# Altium schematic symbol library IC.MCU.SchLib: 12 symbols
Pins are listed as number, name and electrical type; pins without a type are passive.

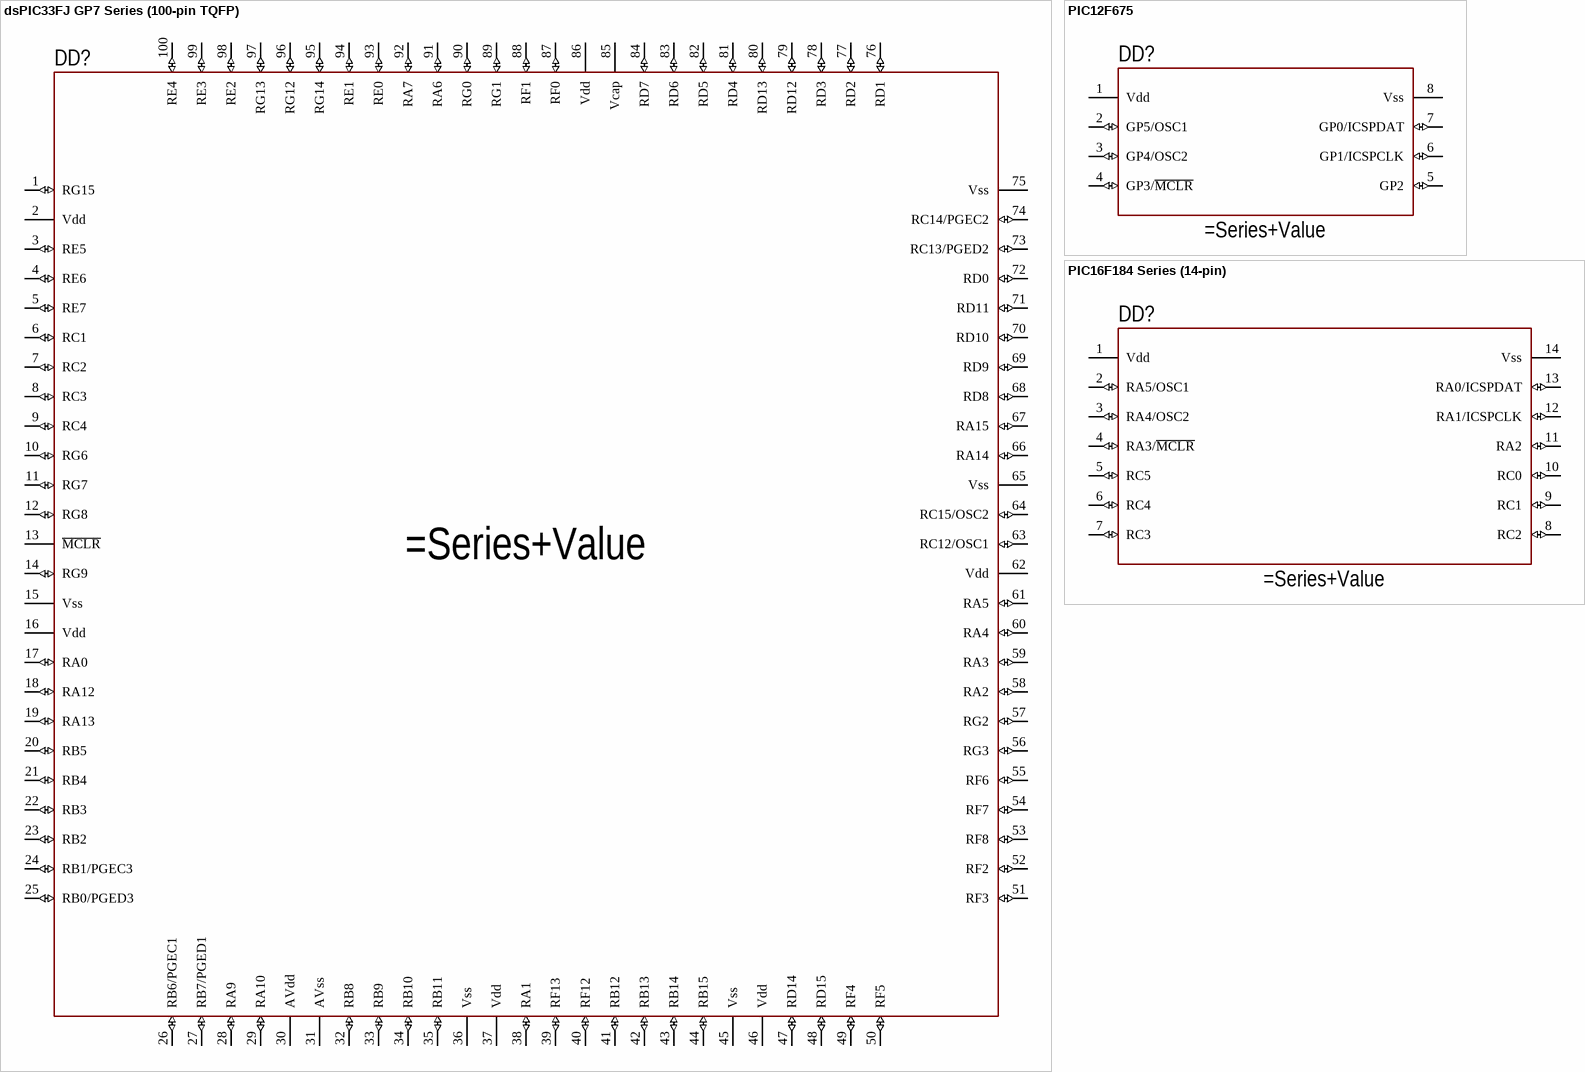
[diagram p0: symbols dsPIC33FJ GP7 Series (100-pin TQFP) to PIC16F184 Series (14-pin)]

## dsPIC33FJ GP7 Series (100-pin TQFP)
designator DD?
16-bit Digital Signal Controllers (up to 256 KB Flash and 30 KB SRAM) with Advanced Analog
pins: 1 RG15 (io), 2 Vdd, 3 RE5 (io), 4 RE6 (io), 5 RE7 (io), 6 RC1 (io), 7 RC2 (io), 8 RC3 (io), 9 RC4 (io), 10 RG6 (io), 11 RG7 (io), 12 RG8 (io), 13 ~{MCLR}, 14 RG9 (io), 15 Vss, 16 Vdd, 17 RA0 (io), 18 RA12 (io), 19 RA13 (io), 20 RB5 (io), 21 RB4 (io), 22 RB3 (io), 23 RB2 (io), 24 RB1/PGEC3 (io), 25 RB0/PGED3 (io), 26 RB6/PGEC1 (io), 27 RB7/PGED1 (io), 28 RA9 (io), 29 RA10 (io), 30 AVdd, 31 AVss, 32 RB8 (io), 33 RB9 (io), 34 RB10 (io), 35 RB11 (io), 36 Vss, 37 Vdd, 38 RA1 (io), 39 RF13 (io), 40 RF12 (io), 41 RB12 (io), 42 RB13 (io), 43 RB14 (io), 44 RB15 (io), 45 Vss, 46 Vdd, 47 RD14 (io), 48 RD15 (io), 49 RF4 (io), 50 RF5 (io), 51 RF3 (io), 52 RF2 (io), 53 RF8 (io), 54 RF7 (io), 55 RF6 (io), 56 RG3 (io), 57 RG2 (io), 58 RA2 (io), 59 RA3 (io), 60 RA4 (io), 61 RA5 (io), 62 Vdd, 63 RC12/OSC1 (io), 64 RC15/OSC2 (io), 65 Vss, 66 RA14 (io), 67 RA15 (io), 68 RD8 (io), 69 RD9 (io), 70 RD10 (io), 71 RD11 (io), 72 RD0 (io), 73 RC13/PGED2 (io), 74 RC14/PGEC2 (io), 75 Vss, 76 RD1 (io), 77 RD2 (io), 78 RD3 (io), 79 RD12 (io), 80 RD13 (io), 81 RD4 (io), 82 RD5 (io), 83 RD6 (io), 84 RD7 (io), 85 Vcap, 86 Vdd, 87 RF0 (io), 88 RF1 (io), 89 RG1 (io), 90 RG0 (io), 91 RA6 (io), 92 RA7 (io), 93 RE0 (io), 94 RE1 (io), 95 RG14 (io), 96 RG12 (io), 97 RG13 (io), 98 RE2 (io), 99 RE3 (io), 100 RE4 (io)

## PIC12F675
designator DD?
PIC12F675 Series MCU
pins: 1 Vdd (power), 2 GP5/OSC1 (io), 3 GP4/OSC2 (io), 4 GP3/~{MCLR} (io), 5 GP2 (io), 6 GP1/ICSPCLK (io), 7 GP0/ICSPDAT (io), 8 Vss (power)

## PIC16F184 Series (14-pin)
designator DD?
14-Pin Full-Featured, Low Pin Count Microcontrollers with XLP
pins: 1 Vdd, 2 RA5/OSC1 (io), 3 RA4/OSC2 (io), 4 RA3/~{MCLR} (io), 5 RC5 (io), 6 RC4 (io), 7 RC3 (io), 8 RC2 (io), 9 RC1 (io), 10 RC0 (io), 11 RA2 (io), 12 RA1/ICSPCLK (io), 13 RA0/ICSPDAT (io), 14 Vss

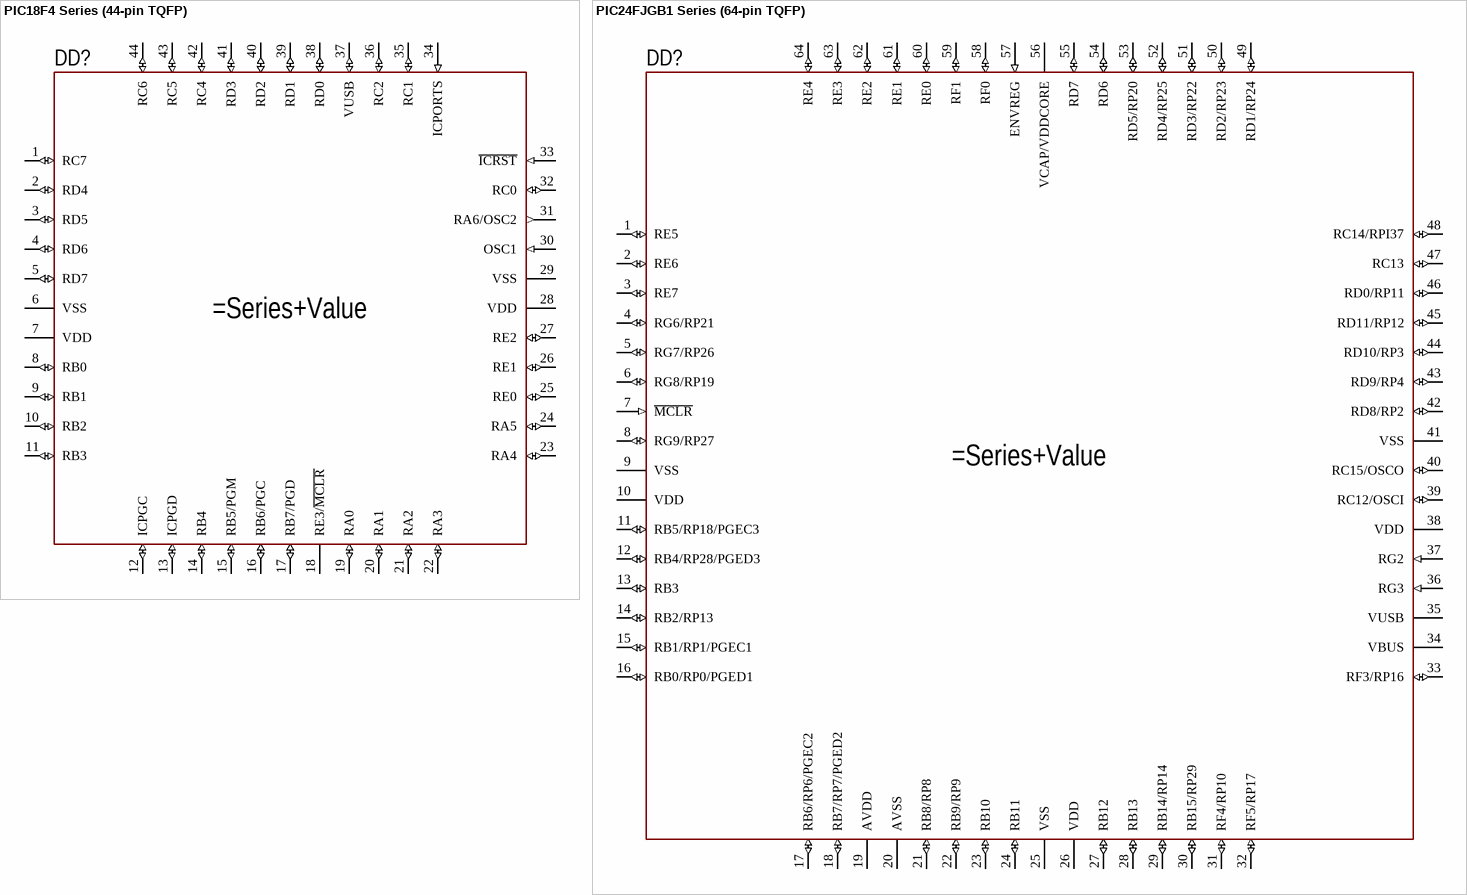
[diagram p1: symbols PIC18F4 Series (44-pin TQFP) to PIC24FJGB1 Series (64-pin TQFP)]

## PIC18F4 Series (44-pin TQFP)
designator DD?
High-Performance, Enhanced Flash, USB Microcontrollers with nanoWatt Technology
pins: 1 RC7 (io), 2 RD4 (io), 3 RD5 (io), 4 RD6 (io), 5 RD7 (io), 6 VSS, 7 VDD, 8 RB0 (io), 9 RB1 (io), 10 RB2 (io), 11 RB3 (io), 12 ICPGC (io), 13 ICPGD (io), 14 RB4 (io), 15 RB5/PGM (io), 16 RB6/PGC (io), 17 RB7/PGD (io), 18 RE3/~{MCLR}, 19 RA0 (io), 20 RA1 (io), 21 RA2 (io), 22 RA3 (io), 23 RA4 (io), 24 RA5 (io), 25 RE0 (io), 26 RE1 (io), 27 RE2 (io), 28 VDD, 29 VSS, 30 OSC1 (in), 31 RA6/OSC2 (out), 32 RC0 (io), 33 ~{ICRST} (in), 34 ICPORTS (in), 35 RC1 (io), 36 RC2 (io), 37 VUSB (io), 38 RD0 (io), 39 RD1 (io), 40 RD2 (io), 41 RD3 (io), 42 RC4 (io), 43 RC5 (io), 44 RC6 (io)

## PIC24FJGB1 Series (64-pin TQFP)
designator DD?
64-Pin, 16-Bit Flash Microcontrollers with USB On-The-Go (OTG)
pins: 1 RE5 (io), 2 RE6 (io), 3 RE7 (io), 4 RG6/RP21 (io), 5 RG7/RP26 (io), 6 RG8/RP19 (io), 7 ~{MCLR} (in), 8 RG9/RP27 (io), 9 VSS, 10 VDD, 11 RB5/RP18/PGEC3 (io), 12 RB4/RP28/PGED3 (io), 13 RB3 (io), 14 RB2/RP13 (io), 15 RB1/RP1/PGEC1 (io), 16 RB0/RP0/PGED1 (io), 17 RB6/RP6/PGEC2 (io), 18 RB7/RP7/PGED2 (io), 19 AVDD, 20 AVSS, 21 RB8/RP8 (io), 22 RB9/RP9 (io), 23 RB10 (io), 24 RB11 (io), 25 VSS, 26 VDD, 27 RB12 (io), 28 RB13 (io), 29 RB14/RP14 (io), 30 RB15/RP29 (io), 31 RF4/RP10 (io), 32 RF5/RP17 (io), 33 RF3/RP16 (io), 34 VBUS, 35 VUSB, 36 RG3 (in), 37 RG2 (in), 38 VDD, 39 RC12/OSCI (io), 40 RC15/OSCO (io), 41 VSS, 42 RD8/RP2 (io), 43 RD9/RP4 (io), 44 RD10/RP3 (io), 45 RD11/RP12 (io), 46 RD0/RP11 (io), 47 RC13 (io), 48 RC14/RPI37 (io), 49 RD1/RP24 (io), 50 RD2/RP23 (io), 51 RD3/RP22 (io), 52 RD4/RP25 (io), 53 RD5/RP20 (io), 54 RD6 (io), 55 RD7 (io), 56 VCAP/VDDCORE, 57 ENVREG (in), 58 RF0 (io), 59 RF1 (io), 60 RE0 (io), 61 RE1 (io), 62 RE2 (io), 63 RE3 (io), 64 RE4 (io)

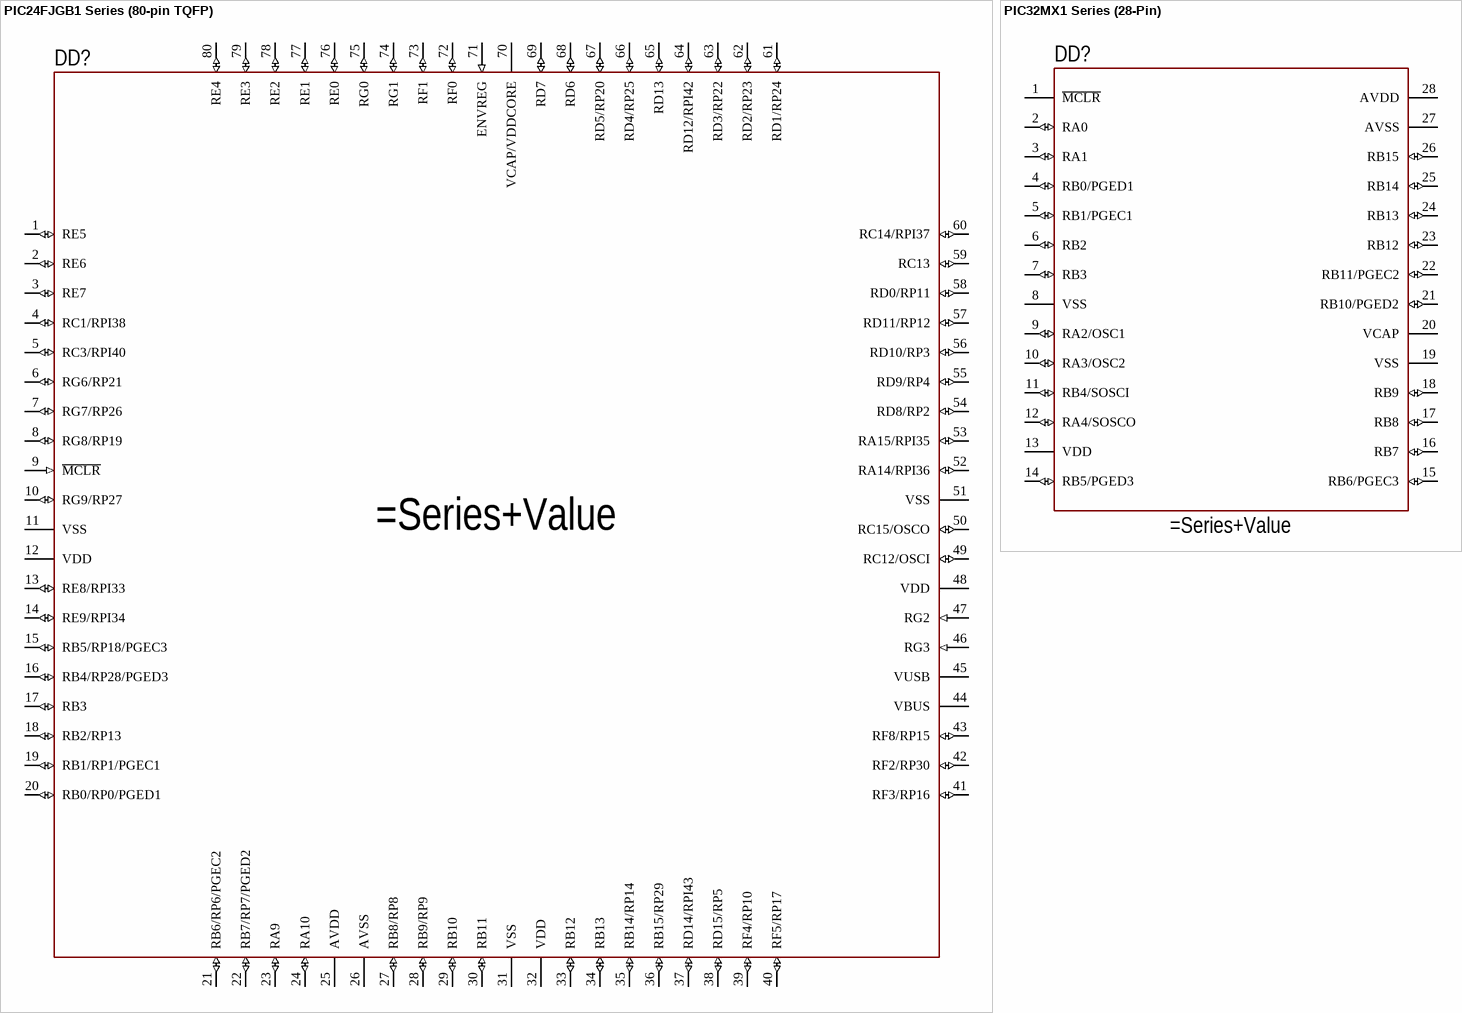
[diagram p2: symbols PIC24FJGB1 Series (80-pin TQFP) to PIC32MX1 Series (28-Pin)]

## PIC24FJGB1 Series (80-pin TQFP)
designator DD?
80-Pin, 16-Bit Flash Microcontrollers with USB On-The-Go (OTG); Group: GB1; Memory: 256; Package: PT; Temperature: I; Pins: 08; Series: PIC24FJ
pins: 1 RE5 (io), 2 RE6 (io), 3 RE7 (io), 4 RC1/RPI38 (io), 5 RC3/RPI40 (io), 6 RG6/RP21 (io), 7 RG7/RP26 (io), 8 RG8/RP19 (io), 9 ~{MCLR} (in), 10 RG9/RP27 (io), 11 VSS, 12 VDD, 13 RE8/RPI33 (io), 14 RE9/RPI34 (io), 15 RB5/RP18/PGEC3 (io), 16 RB4/RP28/PGED3 (io), 17 RB3 (io), 18 RB2/RP13 (io), 19 RB1/RP1/PGEC1 (io), 20 RB0/RP0/PGED1 (io), 21 RB6/RP6/PGEC2 (io), 22 RB7/RP7/PGED2 (io), 23 RA9 (io), 24 RA10 (io), 25 AVDD, 26 AVSS, 27 RB8/RP8 (io), 28 RB9/RP9 (io), 29 RB10 (io), 30 RB11 (io), 31 VSS, 32 VDD, 33 RB12 (io), 34 RB13 (io), 35 RB14/RP14 (io), 36 RB15/RP29 (io), 37 RD14/RPI43 (io), 38 RD15/RP5 (io), 39 RF4/RP10 (io), 40 RF5/RP17 (io), 41 RF3/RP16 (io), 42 RF2/RP30 (io), 43 RF8/RP15 (io), 44 VBUS, 45 VUSB, 46 RG3 (in), 47 RG2 (in), 48 VDD, 49 RC12/OSCI (io), 50 RC15/OSCO (io), 51 VSS, 52 RA14/RPI36 (io), 53 RA15/RPI35 (io), 54 RD8/RP2 (io), 55 RD9/RP4 (io), 56 RD10/RP3 (io), 57 RD11/RP12 (io), 58 RD0/RP11 (io), 59 RC13 (io), 60 RC14/RPI37 (io), 61 RD1/RP24 (io), 62 RD2/RP23 (io), 63 RD3/RP22 (io), 64 RD12/RPI42 (io), 65 RD13 (io), 66 RD4/RP25 (io), 67 RD5/RP20 (io), 68 RD6 (io), 69 RD7 (io), 70 VCAP/VDDCORE, 71 ENVREG (in), 72 RF0 (io), 73 RF1 (io), 74 RG1 (io), 75 RG0 (io), 76 RE0 (io), 77 RE1 (io), 78 RE2 (io), 79 RE3 (io), 80 RE4 (io)

## PIC32MX1 Series (28-Pin)
designator DD?
32-bit Microcontrollers (up to 256 KB Flash and 64 KB SRAM) with Audio and Graphics Interfaces, USB, and Advanced Analog
pins: 1 ~{MCLR}, 2 RA0 (io), 3 RA1 (io), 4 RB0/PGED1 (io), 5 RB1/PGEC1 (io), 6 RB2 (io), 7 RB3 (io), 8 VSS, 9 RA2/OSC1 (io), 10 RA3/OSC2 (io), 11 RB4/SOSCI (io), 12 RA4/SOSCO (io), 13 VDD, 14 RB5/PGED3 (io), 15 RB6/PGEC3 (io), 16 RB7 (io), 17 RB8 (io), 18 RB9 (io), 19 VSS, 20 VCAP, 21 RB10/PGED2 (io), 22 RB11/PGEC2 (io), 23 RB12 (io), 24 RB13 (io), 25 RB14 (io), 26 RB15 (io), 27 AVSS, 28 AVDD

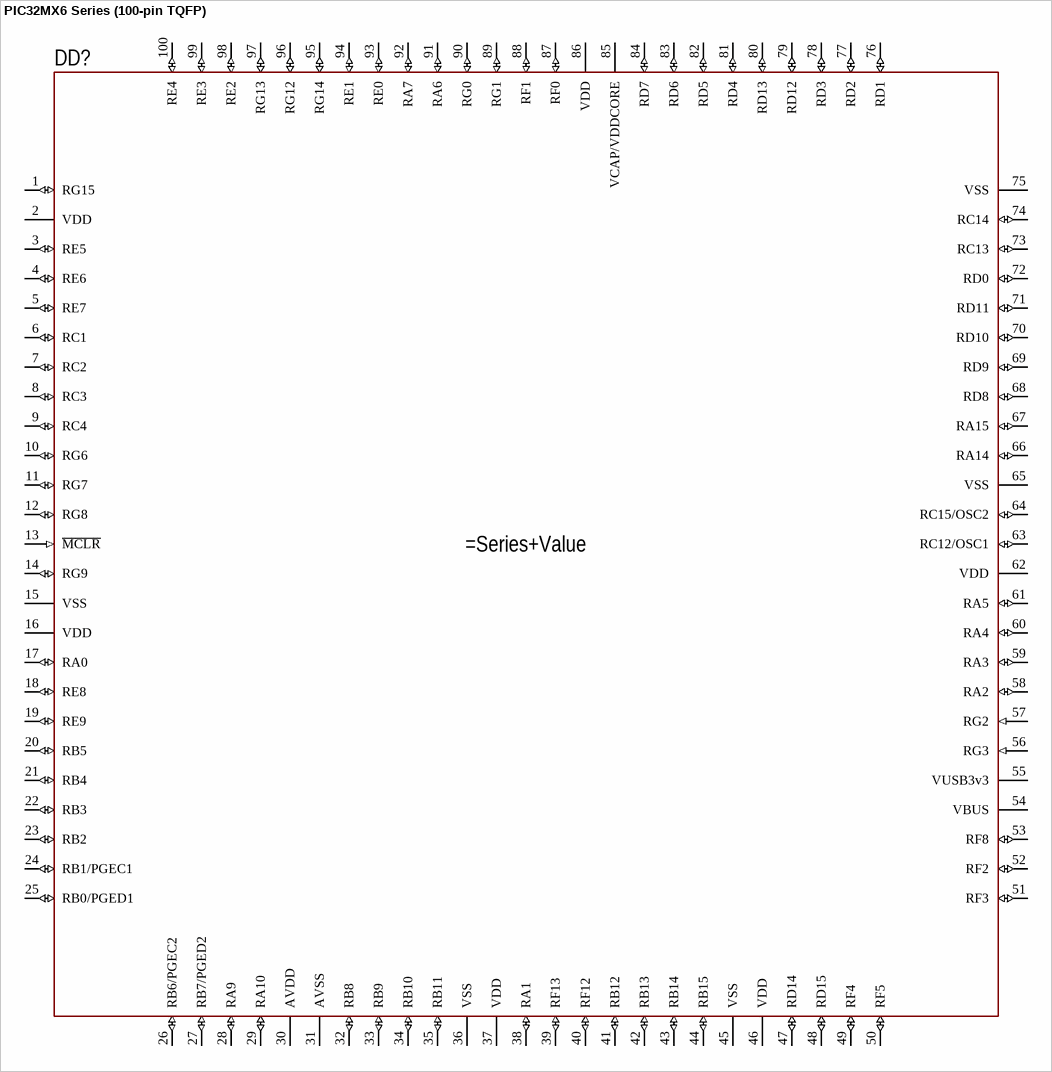
[diagram p3: symbol PIC32MX6 Series (100-pin TQFP)]

## PIC32MX6 Series (100-pin TQFP)
designator DD?
32-bit Microcontrollers (up to 512 KB Flash and 128 KB SRAM) with Graphics Interface, USB, CAN, and Ethernet
pins: 1 RG15 (io), 2 VDD, 3 RE5 (io), 4 RE6 (io), 5 RE7 (io), 6 RC1 (io), 7 RC2 (io), 8 RC3 (io), 9 RC4 (io), 10 RG6 (io), 11 RG7 (io), 12 RG8 (io), 13 ~{MCLR} (in), 14 RG9 (io), 15 VSS, 16 VDD, 17 RA0 (io), 18 RE8 (io), 19 RE9 (io), 20 RB5 (io), 21 RB4 (io), 22 RB3 (io), 23 RB2 (io), 24 RB1/PGEC1 (io), 25 RB0/PGED1 (io), 26 RB6/PGEC2 (io), 27 RB7/PGED2 (io), 28 RA9 (io), 29 RA10 (io), 30 AVDD, 31 AVSS, 32 RB8 (io), 33 RB9 (io), 34 RB10 (io), 35 RB11 (io), 36 VSS, 37 VDD, 38 RA1 (io), 39 RF13 (io), 40 RF12 (io), 41 RB12 (io), 42 RB13 (io), 43 RB14 (io), 44 RB15 (io), 45 VSS, 46 VDD, 47 RD14 (io), 48 RD15 (io), 49 RF4 (io), 50 RF5 (io), 51 RF3 (io), 52 RF2 (io), 53 RF8 (io), 54 VBUS, 55 VUSB3v3, 56 RG3 (in), 57 RG2 (in), 58 RA2 (io), 59 RA3 (io), 60 RA4 (io), 61 RA5 (io), 62 VDD, 63 RC12/OSC1 (io), 64 RC15/OSC2 (io), 65 VSS, 66 RA14 (io), 67 RA15 (io), 68 RD8 (io), 69 RD9 (io), 70 RD10 (io), 71 RD11 (io), 72 RD0 (io), 73 RC13 (io), 74 RC14 (io), 75 VSS, 76 RD1 (io), 77 RD2 (io), 78 RD3 (io), 79 RD12 (io), 80 RD13 (io), 81 RD4 (io), 82 RD5 (io), 83 RD6 (io), 84 RD7 (io), 85 VCAP/VDDCORE, 86 VDD, 87 RF0 (io), 88 RF1 (io), 89 RG1 (io), 90 RG0 (io), 91 RA6 (io), 92 RA7 (io), 93 RE0 (io), 94 RE1 (io), 95 RG14 (io), 96 RG12 (io), 97 RG13 (io), 98 RE2 (io), 99 RE3 (io), 100 RE4 (io)

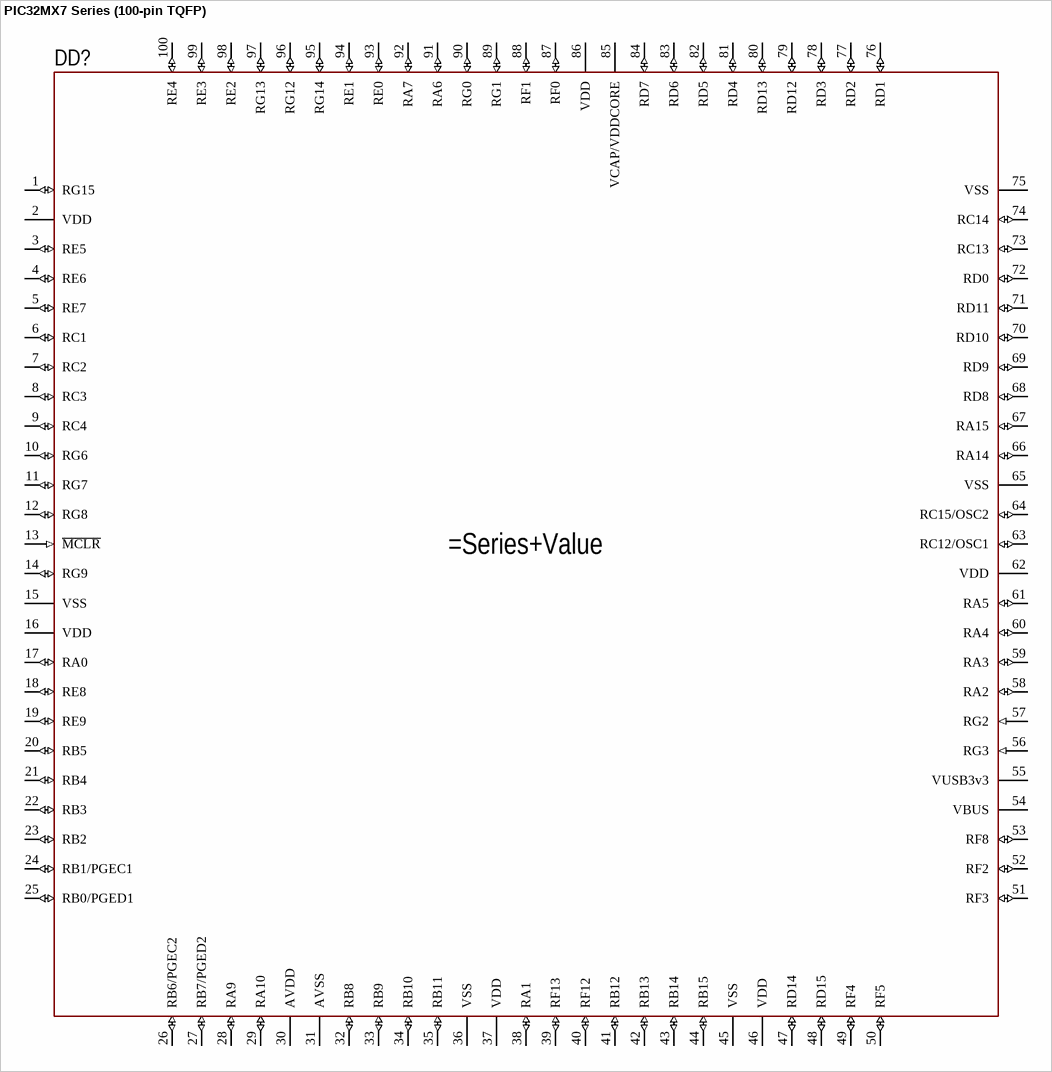
[diagram p4: symbol PIC32MX7 Series (100-pin TQFP)]

## PIC32MX7 Series (100-pin TQFP)
designator DD?
32-bit Microcontrollers (up to 512 KB Flash and 128 KB SRAM) with Graphics Interface, USB, CAN, and Ethernet
pins: 1 RG15 (io), 2 VDD, 3 RE5 (io), 4 RE6 (io), 5 RE7 (io), 6 RC1 (io), 7 RC2 (io), 8 RC3 (io), 9 RC4 (io), 10 RG6 (io), 11 RG7 (io), 12 RG8 (io), 13 ~{MCLR} (in), 14 RG9 (io), 15 VSS, 16 VDD, 17 RA0 (io), 18 RE8 (io), 19 RE9 (io), 20 RB5 (io), 21 RB4 (io), 22 RB3 (io), 23 RB2 (io), 24 RB1/PGEC1 (io), 25 RB0/PGED1 (io), 26 RB6/PGEC2 (io), 27 RB7/PGED2 (io), 28 RA9 (io), 29 RA10 (io), 30 AVDD, 31 AVSS, 32 RB8 (io), 33 RB9 (io), 34 RB10 (io), 35 RB11 (io), 36 VSS, 37 VDD, 38 RA1 (io), 39 RF13 (io), 40 RF12 (io), 41 RB12 (io), 42 RB13 (io), 43 RB14 (io), 44 RB15 (io), 45 VSS, 46 VDD, 47 RD14 (io), 48 RD15 (io), 49 RF4 (io), 50 RF5 (io), 51 RF3 (io), 52 RF2 (io), 53 RF8 (io), 54 VBUS, 55 VUSB3v3, 56 RG3 (in), 57 RG2 (in), 58 RA2 (io), 59 RA3 (io), 60 RA4 (io), 61 RA5 (io), 62 VDD, 63 RC12/OSC1 (io), 64 RC15/OSC2 (io), 65 VSS, 66 RA14 (io), 67 RA15 (io), 68 RD8 (io), 69 RD9 (io), 70 RD10 (io), 71 RD11 (io), 72 RD0 (io), 73 RC13 (io), 74 RC14 (io), 75 VSS, 76 RD1 (io), 77 RD2 (io), 78 RD3 (io), 79 RD12 (io), 80 RD13 (io), 81 RD4 (io), 82 RD5 (io), 83 RD6 (io), 84 RD7 (io), 85 VCAP/VDDCORE, 86 VDD, 87 RF0 (io), 88 RF1 (io), 89 RG1 (io), 90 RG0 (io), 91 RA6 (io), 92 RA7 (io), 93 RE0 (io), 94 RE1 (io), 95 RG14 (io), 96 RG12 (io), 97 RG13 (io), 98 RE2 (io), 99 RE3 (io), 100 RE4 (io)

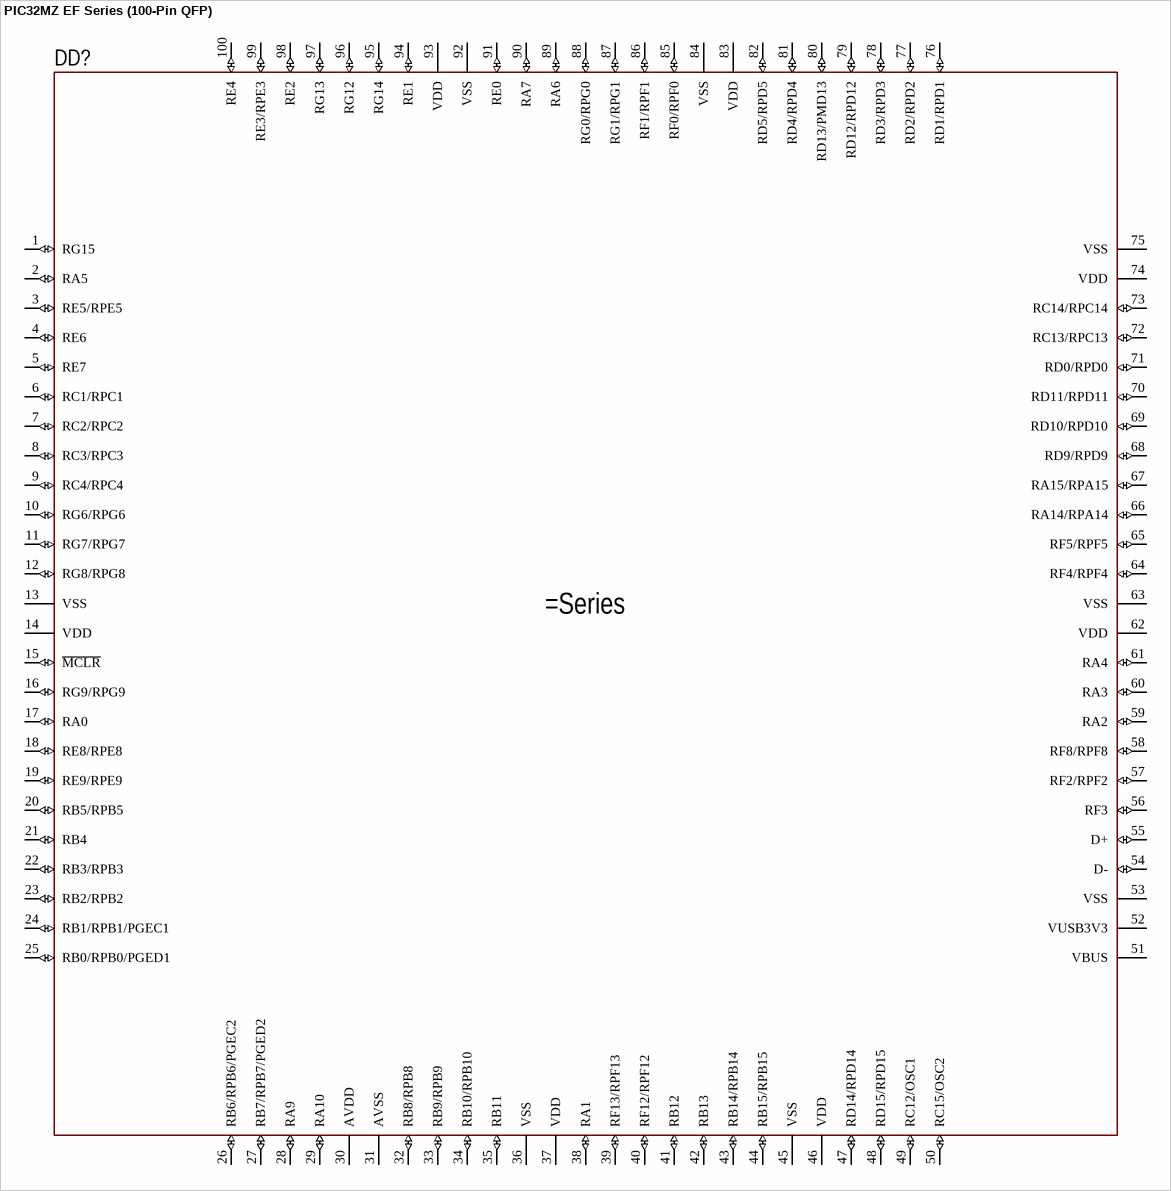
[diagram p5: symbol PIC32MZ EF Series (100-Pin QFP)]

## PIC32MZ EF Series (100-Pin QFP)
designator DD?
32-bit MCUs (up to 2 MB Live-Update Flash and 512 KB SRAM) with FPU, Audio and Graphics Interfaces, HS USB, Ethernet, and Advanced Analog
pins: 1 RG15 (io), 2 RA5 (io), 3 RE5/RPE5 (io), 4 RE6 (io), 5 RE7 (io), 6 RC1/RPC1 (io), 7 RC2/RPC2 (io), 8 RC3/RPC3 (io), 9 RC4/RPC4 (io), 10 RG6/RPG6 (io), 11 RG7/RPG7 (io), 12 RG8/RPG8 (io), 13 VSS, 14 VDD, 15 ~{MCLR} (io), 16 RG9/RPG9 (io), 17 RA0 (io), 18 RE8/RPE8 (io), 19 RE9/RPE9 (io), 20 RB5/RPB5 (io), 21 RB4 (io), 22 RB3/RPB3 (io), 23 RB2/RPB2 (io), 24 RB1/RPB1/PGEC1 (io), 25 RB0/RPB0/PGED1 (io), 26 RB6/RPB6/PGEC2 (io), 27 RB7/RPB7/PGED2 (io), 28 RA9 (io), 29 RA10 (io), 30 AVDD, 31 AVSS, 32 RB8/RPB8 (io), 33 RB9/RPB9 (io), 34 RB10/RPB10 (io), 35 RB11 (io), 36 VSS, 37 VDD, 38 RA1 (io), 39 RF13/RPF13 (io), 40 RF12/RPF12 (io), 41 RB12 (io), 42 RB13 (io), 43 RB14/RPB14 (io), 44 RB15/RPB15 (io), 45 VSS, 46 VDD, 47 RD14/RPD14 (io), 48 RD15/RPD15 (io), 49 RC12/OSC1 (io), 50 RC15/OSC2 (io), 51 VBUS, 52 VUSB3V3, 53 VSS, 54 D- (io), 55 D+ (io), 56 RF3 (io), 57 RF2/RPF2 (io), 58 RF8/RPF8 (io), 59 RA2 (io), 60 RA3 (io), 61 RA4 (io), 62 VDD, 63 VSS, 64 RF4/RPF4 (io), 65 RF5/RPF5 (io), 66 RA14/RPA14 (io), 67 RA15/RPA15 (io), 68 RD9/RPD9 (io), 69 RD10/RPD10 (io), 70 RD11/RPD11 (io), 71 RD0/RPD0 (io), 72 RC13/RPC13 (io), 73 RC14/RPC14 (io), 74 VDD, 75 VSS, 76 RD1/RPD1 (io), 77 RD2/RPD2 (io), 78 RD3/RPD3 (io), 79 RD12/RPD12 (io), 80 RD13/PMD13 (io), 81 RD4/RPD4 (io), 82 RD5/RPD5 (io), 83 VDD, 84 VSS, 85 RF0/RPF0 (io), 86 RF1/RPF1 (io), 87 RG1/RPG1 (io), 88 RG0/RPG0 (io), 89 RA6 (io), 90 RA7 (io), 91 RE0 (io), 92 VSS, 93 VDD, 94 RE1 (io), 95 RG14 (io), 96 RG12 (io), 97 RG13 (io), 98 RE2 (io), 99 RE3/RPE3 (io), 100 RE4 (io)

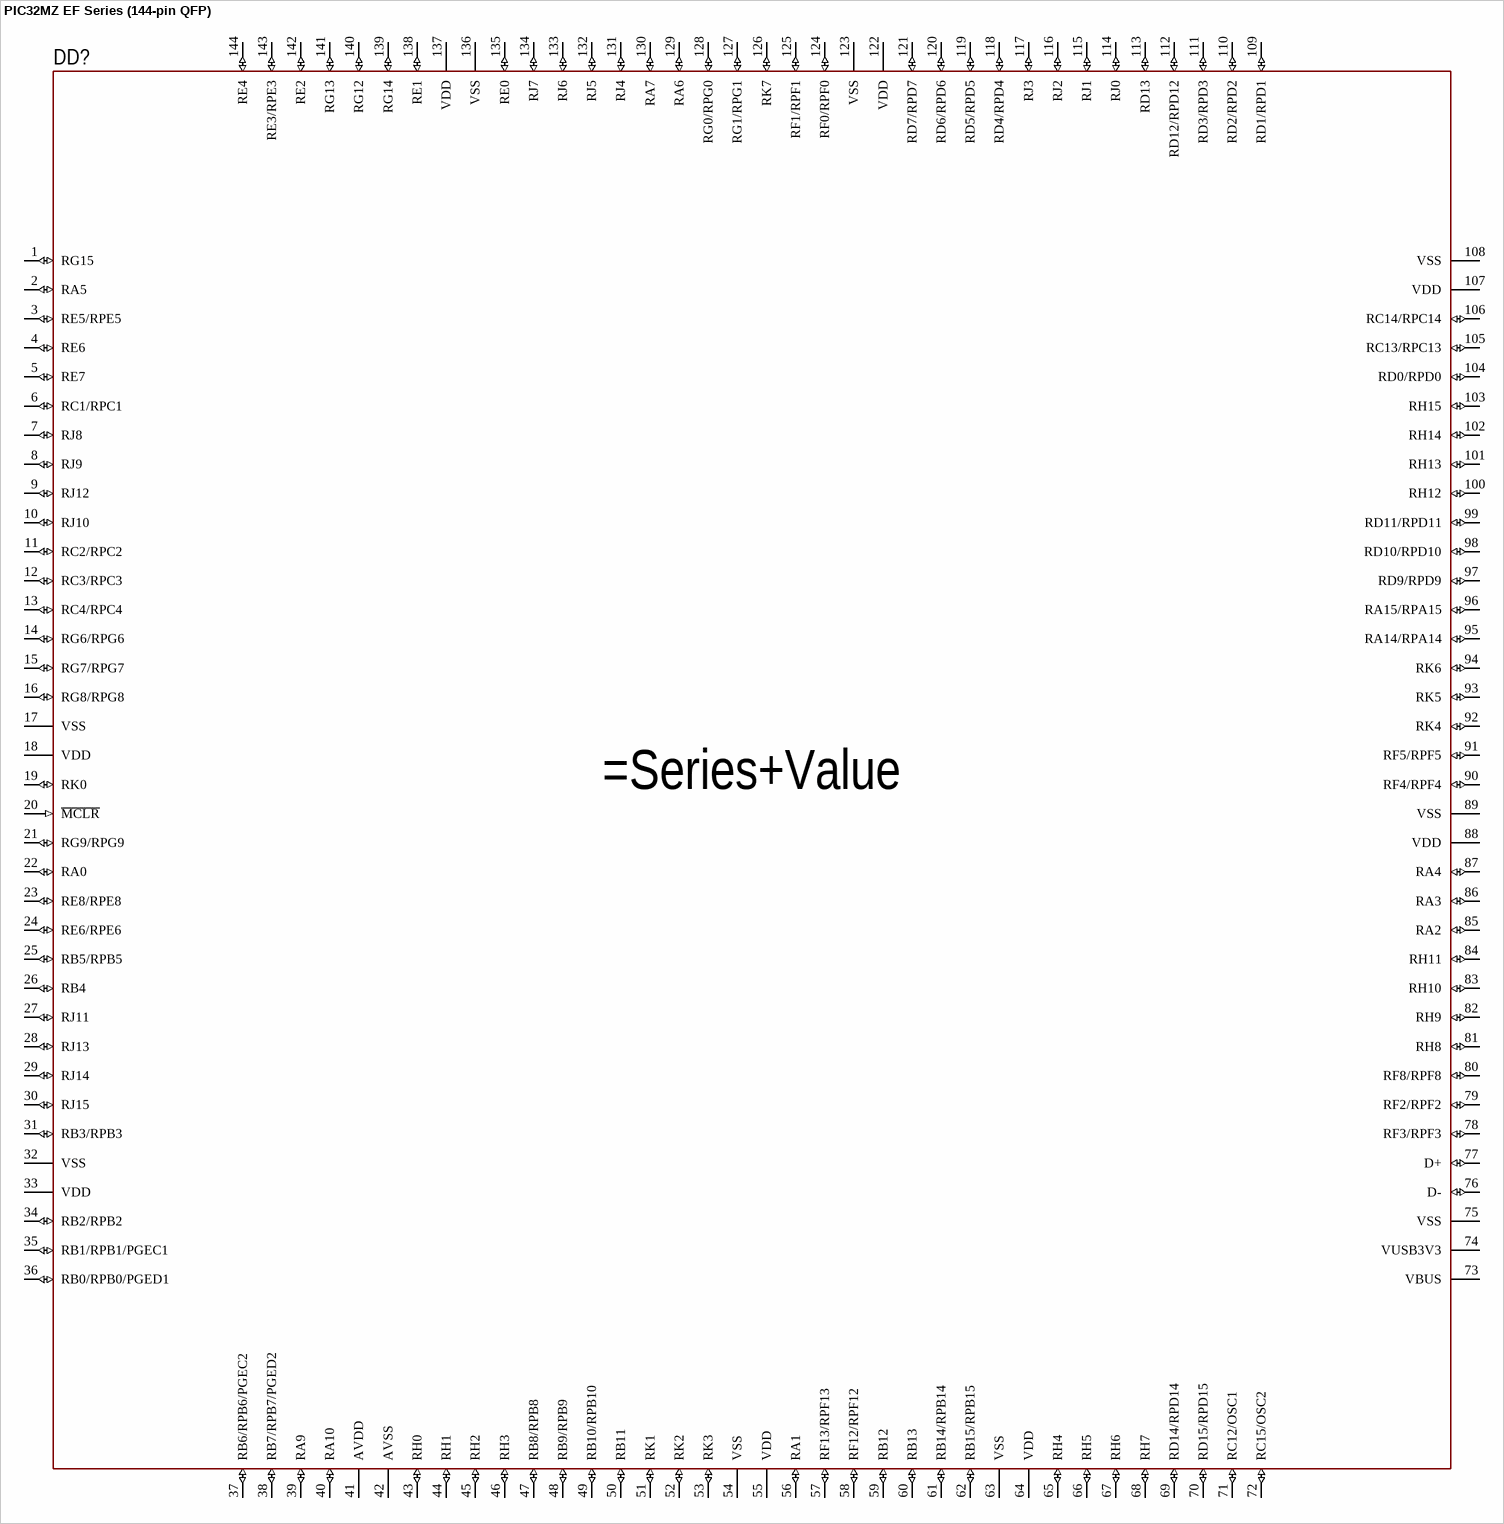
[diagram p6: symbol PIC32MZ EF Series (144-pin QFP)]

## PIC32MZ EF Series (144-pin QFP)
designator DD?
32-bit MCUs (up to 2 MB Live-Update Flash and 512 KB SRAM) with FPU, Audio and Graphics Interfaces, HS USB, Ethernet, and Advanced Analog
pins: 1 RG15 (io), 2 RA5 (io), 3 RE5/RPE5 (io), 4 RE6 (io), 5 RE7 (io), 6 RC1/RPC1 (io), 7 RJ8 (io), 8 RJ9 (io), 9 RJ12 (io), 10 RJ10 (io), 11 RC2/RPC2 (io), 12 RC3/RPC3 (io), 13 RC4/RPC4 (io), 14 RG6/RPG6 (io), 15 RG7/RPG7 (io), 16 RG8/RPG8 (io), 17 VSS, 18 VDD, 19 RK0 (io), 20 ~{MCLR} (in), 21 RG9/RPG9 (io), 22 RA0 (io), 23 RE8/RPE8 (io), 24 RE6/RPE6 (io), 25 RB5/RPB5 (io), 26 RB4 (io), 27 RJ11 (io), 28 RJ13 (io), 29 RJ14 (io), 30 RJ15 (io), 31 RB3/RPB3 (io), 32 VSS, 33 VDD, 34 RB2/RPB2 (io), 35 RB1/RPB1/PGEC1 (io), 36 RB0/RPB0/PGED1 (io), 37 RB6/RPB6/PGEC2 (io), 38 RB7/RPB7/PGED2 (io), 39 RA9 (io), 40 RA10 (io), 41 AVDD, 42 AVSS, 43 RH0 (io), 44 RH1 (io), 45 RH2 (io), 46 RH3 (io), 47 RB8/RPB8 (io), 48 RB9/RPB9 (io), 49 RB10/RPB10 (io), 50 RB11 (io), 51 RK1 (io), 52 RK2 (io), 53 RK3 (io), 54 VSS, 55 VDD, 56 RA1 (io), 57 RF13/RPF13 (io), 58 RF12/RPF12 (io), 59 RB12 (io), 60 RB13 (io), 61 RB14/RPB14 (io), 62 RB15/RPB15 (io), 63 VSS, 64 VDD, 65 RH4 (io), 66 RH5 (io), 67 RH6 (io), 68 RH7 (io), 69 RD14/RPD14 (io), 70 RD15/RPD15 (io), 71 RC12/OSC1 (io), 72 RC15/OSC2 (io), 73 VBUS, 74 VUSB3V3, 75 VSS, 76 D- (io), 77 D+ (io), 78 RF3/RPF3 (io), 79 RF2/RPF2 (io), 80 RF8/RPF8 (io), 81 RH8 (io), 82 RH9 (io), 83 RH10 (io), 84 RH11 (io), 85 RA2 (io), 86 RA3 (io), 87 RA4 (io), 88 VDD, 89 VSS, 90 RF4/RPF4 (io), 91 RF5/RPF5 (io), 92 RK4 (io), 93 RK5 (io), 94 RK6 (io), 95 RA14/RPA14 (io), 96 RA15/RPA15 (io), 97 RD9/RPD9 (io), 98 RD10/RPD10 (io), 99 RD11/RPD11 (io), 100 RH12 (io), 101 RH13 (io), 102 RH14 (io), 103 RH15 (io), 104 RD0/RPD0 (io), 105 RC13/RPC13 (io), 106 RC14/RPC14 (io), 107 VDD, 108 VSS, 109 RD1/RPD1 (io), 110 RD2/RPD2 (io), 111 RD3/RPD3 (io), 112 RD12/RPD12 (io), 113 RD13 (io), 114 RJ0 (io), 115 RJ1 (io), 116 RJ2 (io), 117 RJ3 (io), 118 RD4/RPD4 (io), 119 RD5/RPD5 (io), 120 RD6/RPD6 (io), 121 RD7/RPD7 (io), 122 VDD, 123 VSS, 124 RF0/RPF0 (io), 125 RF1/RPF1 (io), 126 RK7 (io), 127 RG1/RPG1 (io), 128 RG0/RPG0 (io), 129 RA6 (io), 130 RA7 (io), 131 RJ4 (io), 132 RJ5 (io), 133 RJ6 (io), 134 RJ7 (io), 135 RE0 (io), 136 VSS, 137 VDD, 138 RE1 (io), 139 RG14 (io), 140 RG12 (io), 141 RG13 (io), 142 RE2 (io), 143 RE3/RPE3 (io), 144 RE4 (io)

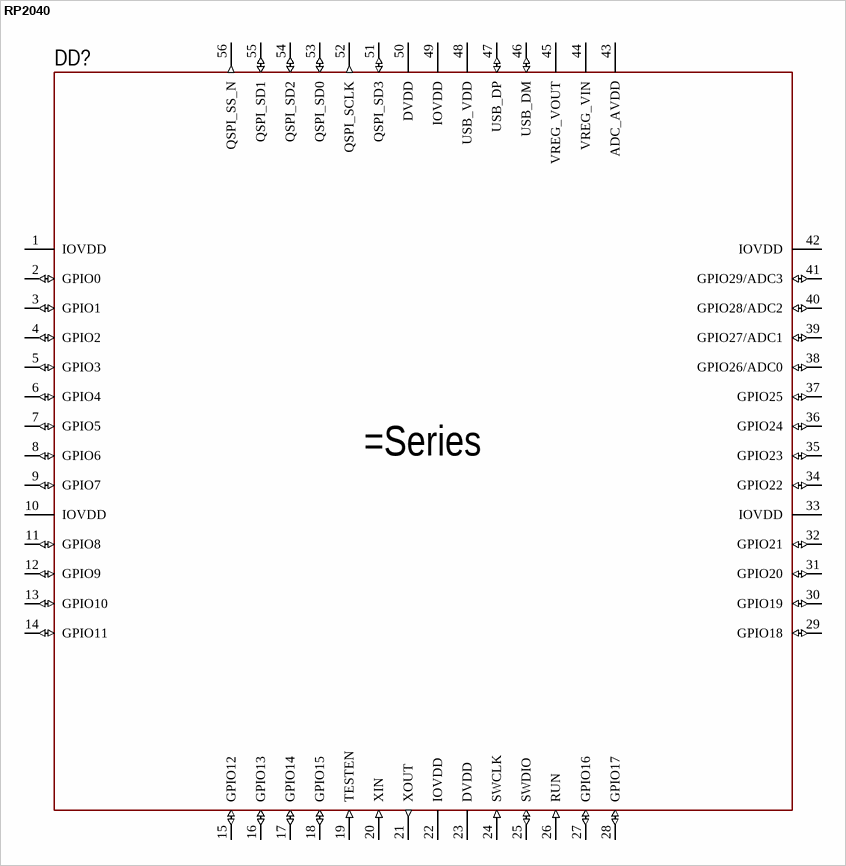
[diagram p7: symbol RP2040]

## RP2040
designator DD?
RP2040 MCU, 264kB RAM, 2 UART, 2 SPI, 2 I2C, 16 PWM, 4-ch ADC, 30 GPIO, USB
pins: 1 IOVDD, 2 GPIO0 (io), 3 GPIO1 (io), 4 GPIO2 (io), 5 GPIO3 (io), 6 GPIO4 (io), 7 GPIO5 (io), 8 GPIO6 (io), 9 GPIO7 (io), 10 IOVDD, 11 GPIO8 (io), 12 GPIO9 (io), 13 GPIO10 (io), 14 GPIO11 (io), 15 GPIO12 (io), 16 GPIO13 (io), 17 GPIO14 (io), 18 GPIO15 (io), 19 TESTEN (in), 20 XIN (in), 21 XOUT (out), 22 IOVDD, 23 DVDD, 24 SWCLK (in), 25 SWDIO (io), 26 RUN (in), 27 GPIO16 (io), 28 GPIO17 (io), 29 GPIO18 (io), 30 GPIO19 (io), 31 GPIO20 (io), 32 GPIO21 (io), 33 IOVDD, 34 GPIO22 (io), 35 GPIO23 (io), 36 GPIO24 (io), 37 GPIO25 (io), 38 GPIO26/ADC0 (io), 39 GPIO27/ADC1 (io), 40 GPIO28/ADC2 (io), 41 GPIO29/ADC3 (io), 42 IOVDD, 43 ADC_AVDD, 44 VREG_VIN, 45 VREG_VOUT, 46 USB_DM (io), 47 USB_DP (io), 48 USB_VDD (power), 49 IOVDD (power), 50 DVDD (power), 51 QSPI_SD3 (io), 52 QSPI_SCLK (out), 53 QSPI_SD0 (io), 54 QSPI_SD2 (io), 55 QSPI_SD1 (io), 56 QSPI_SS_N (out), PAD GND hidden to GND